# EAGLE library part IMC10 (library con-phoenix-381_l)
Invertierter Mini-Combicon 3.81mm horizontal 10-polig IMC 1,5/10-G-3,81 (ohne Gegenstecker)
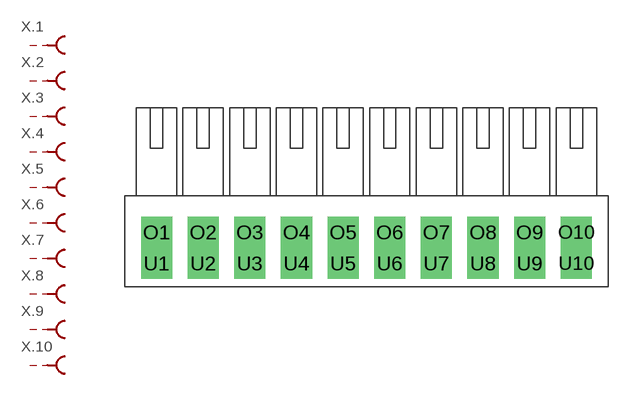
[diagram p26: symbol with the pads of IMC10; footprint IMC10]

Designator prefix X; gates .5=MCBU .4=MCBU .3=MCBU .2=MCBU .1=MCBU .6=MCBU .7=MCBU .8=MCBU .9=MCBU .10=MCBU

## IMC10  [IMC10]
O1  .1:S  pas
O2  .2:S  pas
O3  .3:S  pas
O4  .4:S  pas
O5  .5:S  pas
O6  .6:S  pas
O7  .7:S  pas
O8  .8:S  pas
O9  .9:S  pas
O10  .10:S  pas
U1  .1:SK  pas
U2  .2:SK  pas
U3  .3:SK  pas
U4  .4:SK  pas
U5  .5:SK  pas
U6  .6:SK  pas
U7  .7:SK  pas
U8  .8:SK  pas
U9  .9:SK  pas
U10  .10:SK  pas

## Footprint IMC10 (pad centres in mm)
Mini-Combicon 3.81mm horizontal 10-polig invertiert (ohne Gegenstecker)
drill 1.3 pad 2.54 square: O1 -17.145,1.27; O2 -13.335,1.27; O3 -9.525,1.27; O4 -5.715,1.27; O5 -1.905,1.27; O6 1.905,1.27; O7 5.715,1.27; O8 9.525,1.27; O9 13.335,1.27; O10 17.145,1.27; U1 -17.145,-1.27; U2 -13.335,-1.27; U3 -9.525,-1.27; U4 -5.715,-1.27; U5 -1.905,-1.27; U6 1.905,-1.27; U7 5.715,-1.27; U8 9.525,-1.27; U9 13.335,-1.27; U10 17.145,-1.27